# EAGLE library part ISP (library we-board)
AVR ISP connector
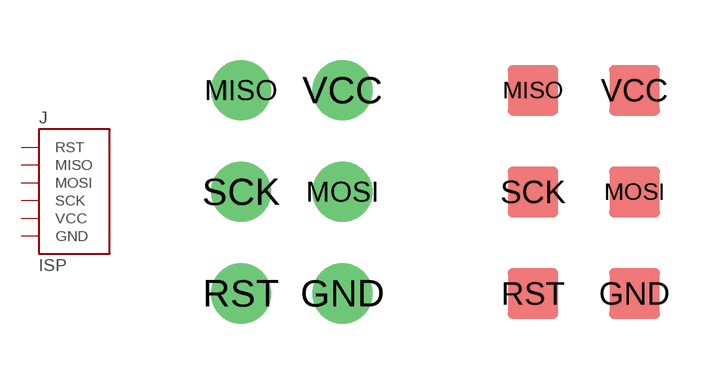
[diagram p8: symbol with the pads of ISP-2X3; footprints ISP-2X3, ISP-2X3_SMD]

Designator prefix J

## ISP  [ISP-2X3]
GND  GND  pwr
MISO  MISO
MOSI  MOSI
RST  RST
SCK  SCK
VCC  VCC  pwr

## ISP-SMD  [ISP-2X3_SMD]
Pads as for ISP-2X3

## ISP-1X6  [ISP-1X6]
Pads as for ISP-2X3

## Footprint ISP-2X3 (pad centres in mm)
2x3
drill 1: GND 1.27,-2.54; MISO -1.27,2.54; MOSI 1.27,0; RST -1.27,-2.54; SCK -1.27,0; VCC 1.27,2.54

## Footprint ISP-2X3_SMD (pad centres in mm)
2x3 SMD with cream
smd 1.27 x 1.27: GND 1.27,-2.54; MISO -1.27,2.54; MOSI 1.27,0; RST -1.27,-2.54; SCK -1.27,0; VCC 1.27,2.54

## Footprint ISP-1X6 (pad centres in mm)
1x6
drill 1 square: GND 0,6.35
drill 1 octagon: MISO 0,-3.81; MOSI 0,-1.27; RST 0,-6.35; SCK 0,1.27; VCC 0,3.81